# Altium footprint library MAX98357AETE.PcbLib: 4 footprints
Each footprint in its own frame and in the unit in brackets; x right, y up, seen from the top. Pads: shape width x height; smd on the part's side, far side on the other; paste and mask are expansions set on the pad; w line width, h text height; cw(c..) or ccw(c..) is an arc to the next point about the centre after c.
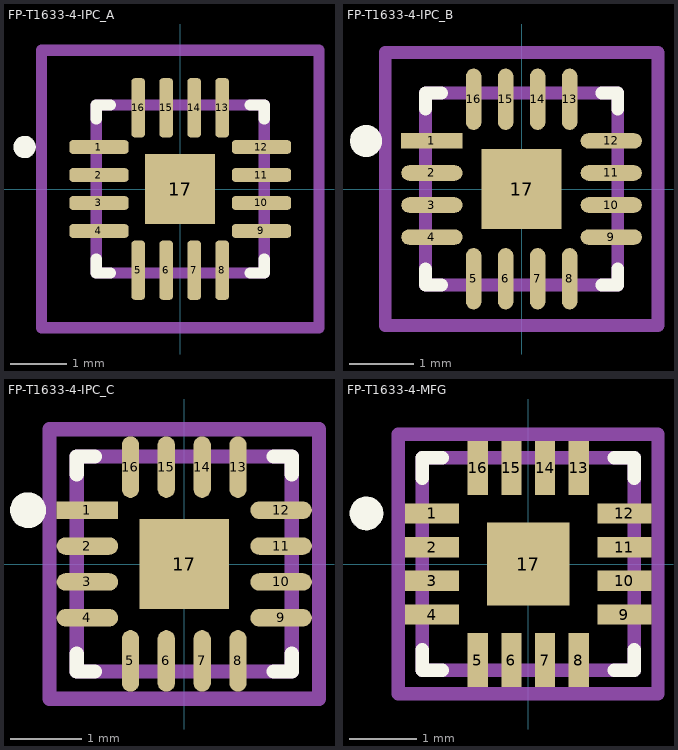
[diagram p0: the footprints below, top view; thin cyan lines are the x and y axes]

## FP-T1633-4-IPC_A [mm]
pads (17):
  rrect50% 1.057x0.242 smd paste+0: 1(-1.451,0.75) 2(-1.451,0.25) 3(-1.451,-0.25) 4(-1.451,-0.75) 9(1.451,-0.75) 10(1.451,-0.25) 11(1.451,0.25) 12(1.451,0.75)
  rrect50% 0.242x1.057 smd paste+0: 5(-0.75,-1.451) 6(-0.25,-1.451) 7(0.25,-1.451) 8(0.75,-1.451) 13(0.75,1.451) 14(0.25,1.451) 15(-0.25,1.451) 16(-0.75,1.451)
  rect 1.25x1.25 smd paste-1000: 17(0,0)
Top Overlay:
  circle w0.2: c-2.779,0.75 r0.1
  lines w0.2: -1.5,-1.25 -1.5,-1.5 -1.25,-1.5 ; -1.5,1.25 -1.5,1.5 -1.25,1.5 ; 1.25,-1.5 1.5,-1.5 1.5,-1.25 ; 1.25,1.5 1.5,1.5 1.5,1.25
Top Paste:
  rectangle: -0.395,-0.395 0.395,0.395
Top Assembly:
  lines w0.2: -2.479,-2.479 -2.479,2.479 2.479,2.479 2.479,-2.479 -2.479,-2.479
Top 3D Body:
  lines w0.2: -1.5,-1.5 -1.5,1.5 1.5,1.5 1.5,-1.5 -1.5,-1.5
Top Courtyard:
  lines w0.2: -2.479,-2.479 -2.479,2.479 2.479,2.479 2.479,-2.479 -2.479,-2.479
Top Component Center:
  lines w0.1: -0.5,0 0.5,0 ; 0,-0.5 0,0.5
3D body "IC_Maxim_Integrated_MAX98357AETE+_eec.STEP": height 0.25, standoff 0, extent -2.479,-2.479 2.479,2.479

## FP-T1633-4-IPC_B [mm]
pads (17):
  rect 0.957x0.242 smd paste+0 mask+0: 1(-1.401,0.75)
  rrect100% 0.957x0.242 smd paste+0 mask+0: 2(-1.401,0.25) 3(-1.401,-0.25) 4(-1.401,-0.75) 9(1.401,-0.75) 10(1.401,-0.25) 11(1.401,0.25) 12(1.401,0.75)
  rrect100% 0.242x0.957 smd paste+0 mask+0: 5(-0.75,-1.401) 6(-0.25,-1.401) 7(0.25,-1.401) 8(0.75,-1.401) 13(0.75,1.401) 14(0.25,1.401) 15(-0.25,1.401) 16(-0.75,1.401)
  rect 1.25x1.25 smd paste-1000 mask+0: 17(0,0)
Top Overlay:
  circle w0.25: c-2.429,0.75 r0.125
  lines w0.2: -1.5,-1.25 -1.5,-1.5 -1.25,-1.5 ; -1.5,1.25 -1.5,1.5 -1.25,1.5 ; 1.25,-1.5 1.5,-1.5 1.5,-1.25 ; 1.25,1.5 1.5,1.5 1.5,1.25
Top Paste:
  rectangle: -0.395,-0.395 0.395,0.395
Top Assembly:
  lines w0.2: -2.129,-2.129 2.129,-2.129 2.129,2.129 -2.129,2.129 -2.129,-2.129
  text ".Designator" at 0,0.188 h1
Top 3D Body:
  lines w0.2: -1.5,-1.5 1.5,-1.5 1.5,1.5 -1.5,1.5 -1.5,-1.5
Top Courtyard:
  lines w0.2: -2.129,-2.129 2.129,-2.129 2.129,2.129 -2.129,2.129 -2.129,-2.129
Top Component Center:
  lines w0.1: -0.5,0 0.5,0 ; 0,-0.5 0,0.5
3D body "IC_Maxim_Integrated_MAX98357AETE+_eec.STEP": height 0.25, standoff 0, extent -2.129,-2.129 2.129,2.129

## FP-T1633-4-IPC_C [mm]
pads (17):
  rect 0.857x0.242 smd paste+0 mask+0: 1(-1.351,0.75)
  rrect100% 0.857x0.242 smd paste+0 mask+0: 2(-1.351,0.25) 3(-1.351,-0.25) 4(-1.351,-0.75) 9(1.351,-0.75) 10(1.351,-0.25) 11(1.351,0.25) 12(1.351,0.75)
  rrect100% 0.242x0.857 smd paste+0 mask+0: 5(-0.75,-1.351) 6(-0.25,-1.351) 7(0.25,-1.351) 8(0.75,-1.351) 13(0.75,1.351) 14(0.25,1.351) 15(-0.25,1.351) 16(-0.75,1.351)
  rect 1.25x1.25 smd paste-1000 mask+0: 17(0,0)
Top Overlay:
  circle w0.25: c-2.179,0.75 r0.125
  lines w0.2: -1.5,-1.25 -1.5,-1.5 -1.25,-1.5 ; -1.5,1.25 -1.5,1.5 -1.25,1.5 ; 1.25,-1.5 1.5,-1.5 1.5,-1.25 ; 1.25,1.5 1.5,1.5 1.5,1.25
Top Paste:
  rectangle: -0.395,-0.395 0.395,0.395
Top Assembly:
  lines w0.2: -1.879,-1.879 1.879,-1.879 1.879,1.879 -1.879,1.879 -1.879,-1.879
  text ".Designator" at 0,0.188 h1
Top 3D Body:
  lines w0.2: -1.5,-1.5 1.5,-1.5 1.5,1.5 -1.5,1.5 -1.5,-1.5
Top Courtyard:
  lines w0.2: -1.879,-1.879 1.879,-1.879 1.879,1.879 -1.879,1.879 -1.879,-1.879
Top Component Center:
  lines w0.1: -0.5,0 0.5,0 ; 0,-0.5 0,0.5
3D body "IC_Maxim_Integrated_MAX98357AETE+_eec.STEP": height 0.25, standoff 0, extent -1.879,-1.879 1.879,1.879

## FP-T1633-4-MFG [mm]
pads (17):
  rect 0.8x0.3 smd paste+0 mask+0: 1(-1.425,0.75) 2(-1.425,0.25) 3(-1.425,-0.25) 4(-1.425,-0.75) 9(1.425,-0.75) 10(1.425,-0.25) 11(1.425,0.25) 12(1.425,0.75)
  rect 0.3x0.8 smd paste+0 mask+0: 5(-0.75,-1.425) 6(-0.25,-1.425) 7(0.25,-1.425) 8(0.75,-1.425) 13(0.75,1.425) 14(0.25,1.425) 15(-0.25,1.425) 16(-0.75,1.425)
  rect 1.23x1.23 smd paste+0 mask+0: 17(0,0)
Top Overlay:
  circle w0.25: c-2.4,0.75 r0.125
  lines w0.2: -1.575,-1.275 -1.575,-1.575 -1.275,-1.575 ; -1.575,1.275 -1.575,1.575 -1.275,1.575 ; 1.275,-1.575 1.575,-1.575 1.575,-1.275 ; 1.275,1.575 1.575,1.575 1.575,1.275
Top Assembly:
  lines w0.2: -1.925,-1.925 1.925,-1.925 1.925,1.925 -1.925,1.925 -1.925,-1.925
  text ".Designator" at 0,0.188 h1
Top 3D Body:
  lines w0.2: -1.575,-1.575 1.575,-1.575 1.575,1.575 -1.575,1.575 -1.575,-1.575
Top Courtyard:
  lines w0.2: -1.925,-1.925 1.925,-1.925 1.925,1.925 -1.925,1.925 -1.925,-1.925
Top Component Center:
  lines w0.1: -0.5,0 0.5,0 ; 0,-0.5 0,0.5
3D body "IC_Maxim_Integrated_MAX98357AETE+_eec.STEP": height 0.25, standoff 0, extent -1.925,-1.925 1.925,1.925